# Altium footprint library WE-OLSTM.PcbLib: 28 footprints (part 2 of 2)
Each footprint in its own frame and in the unit in brackets; x right, y up, seen from the top. Pads: shape width x height; smd on the part's side, far side on the other; paste and mask are expansions set on the pad; w line width, h text height; cw(c..) or ccw(c..) is an arc to the next point about the centre after c.
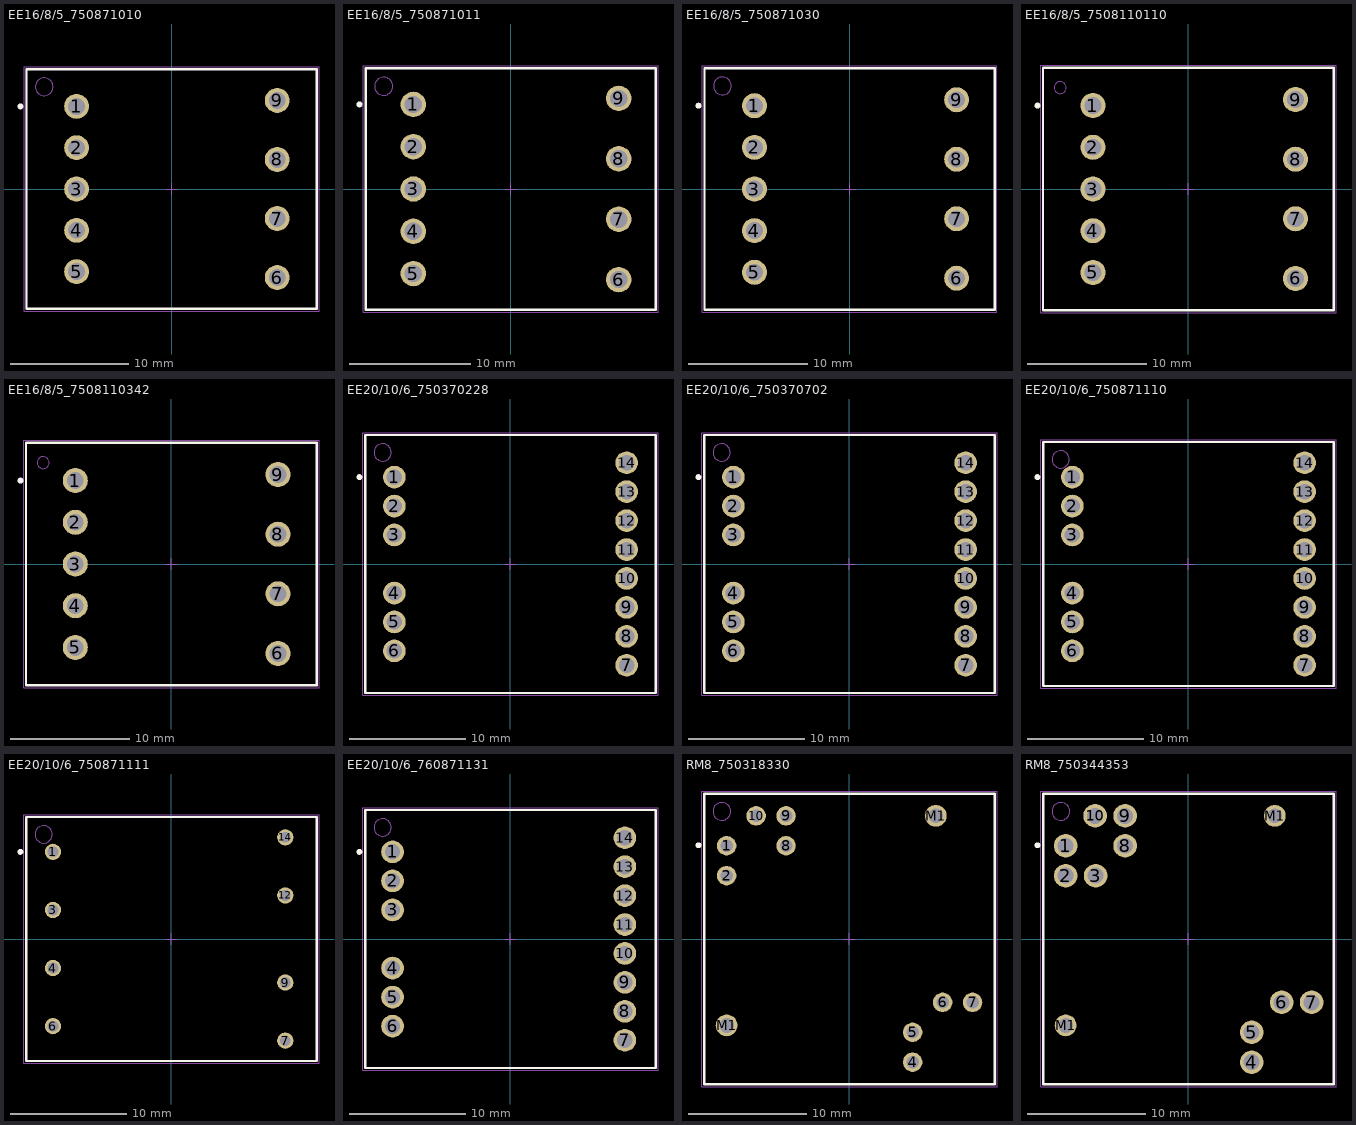
[diagram p1: the footprints below, top view; thin cyan lines are the x and y axes]

## EE16/8/5_750871010 [mm] "Offline Flyback Transformer, THT, body 24.58 x 20.32 mm"
height 16
pads (9):
  round 2.1 hole 1.42: 1(-8.05,7) 2(-8.05,3.5) 3(-8.05,0) 4(-8.05,-3.5) 5(-8.05,-7) 6(8.95,-7.5) 7(8.95,-2.5) 8(8.95,2.5) 9(8.95,7.5)
Top Overlay:
  circle w0.25: c-12.8,7 r0.125
  lines w0.2: -12.29,-10.16 12.29,-10.16 12.29,10.16 -12.29,10.16 -12.29,-10.16
Top Component Outline:
  circle w0.1: c-10.79,8.66 r0.75
  lines w0.1: -12.29,-10.16 -12.29,10.16 12.29,10.16 12.29,-10.16 -12.29,-10.16
Top Courtyard:
  lines w0.05: -12.49,-10.36 -12.49,10.36 12.49,10.36 12.49,-10.36 -12.49,-10.36
Top Component Center:
  lines w0.05: -0.5,0 0.5,0 ; 0,-0.5 0,0.5
Top Designator (Mech19):
  text ".Designator" at -7.498,-0.5 h1.5
3D body "070-5280 (rev1).STEP": height 14.95, standoff -3.45, extent -11.905,-9.9 11.905,9.9

## EE16/8/5_750871011 [mm] "Offline Flyback Transformer, THT, body 24.00 x 20.00 mm"
height 16
pads (9):
  round 2.1 hole 1.42: 1(-8.05,7) 2(-8.05,3.5) 3(-8.05,0) 4(-8.05,-3.5) 5(-8.05,-7) 6(8.95,-7.5) 7(8.95,-2.5) 8(8.95,2.5) 9(8.95,7.5)
Top Overlay:
  circle w0.25: c-12.5,7 r0.125
  lines w0.2: -12,-10 12,-10 12,10 -12,10 -12,-10
Top Component Outline:
  circle w0.1: c-10.5,8.5 r0.75
  lines w0.1: -12,-10 12,-10 12,10 -12,10 -12,-10
Top Courtyard:
  lines w0.05: -12.2,-10.2 12.2,-10.2 12.2,10.2 -12.2,10.2 -12.2,-10.2
Top Component Center:
  lines w0.05: -0.5,0 0.5,0 ; 0,-0.5 0,0.5
Top Designator (Mech19):
  text ".Designator" at -7.498,-0.5 h1.5
3D body "070-5280 (rev1).STEP": height 14.95, standoff -3.45, extent -11.905,-9.9 11.905,9.9

## EE16/8/5_750871030 [mm] "Offline Flyback Transformer, THT, body 24.38 x 20.32 mm"
height 16
pads (9):
  round 2.1 hole 1.42: 1(-8,7) 2(-8,3.5) 3(-8,0) 4(-8,-3.5) 5(-8,-7) 6(9,-7.5) 7(9,-2.5) 8(9,2.5) 9(9,7.5)
Top Overlay:
  circle w0.25: c-12.7,7 r0.125
  lines w0.2: -12.19,-10.16 12.19,-10.16 12.19,10.16 -12.19,10.16 -12.19,-10.16
Top Component Outline:
  circle w0.1: c-10.69,8.66 r0.75
  lines w0.1: -12.19,-10.16 12.19,-10.16 12.19,10.16 -12.19,10.16 -12.19,-10.16
Top Courtyard:
  lines w0.05: -12.39,-10.36 12.39,-10.36 12.39,10.36 -12.39,10.36 -12.39,-10.36
Top Component Center:
  lines w0.05: -0.5,0 0.5,0 ; 0,-0.5 0,0.5
Top Designator (Mech19):
  text ".Designator" at -7.498,-0.5 h1.5
3D body "070-5280 (rev1).STEP": height 14.95, standoff -3.45, extent -11.905,-9.9 11.905,9.9

## EE16/8/5_7508110110 [mm] "Offline Flyback Transformer, THT, body 24.38 x 20.32 mm"
height 16
pads (9):
  round 2.1 hole 1.4: 1(-8,7) 2(-8,3.5) 3(-8,0) 4(-8,-3.5) 5(-8,-7) 6(9,-7.5) 7(9,-2.5) 8(9,2.5) 9(9,7.5)
Top Overlay:
  circle w0.25: c-12.65,7 r0.125
  lines w0.2: -12.19,-10.16 12.19,-10.16 12.19,10.16 -12.19,10.16 -12.19,-10.16
Top Component Outline:
  circle w0.1: c-10.75,8.5 r0.5
  lines w0.1: -12.19,-10.16 12.19,-10.16 12.19,10.16 -12.19,10.16 -12.19,-10.16
Top Courtyard:
  lines w0.05: -12.39,-10.36 12.39,-10.36 12.39,10.36 -12.39,10.36 -12.39,-10.36
Top Component Center:
  lines w0.05: -0.5,0 0.5,0 ; 0,-0.5 0,0.5
Top Designator (Mech19):
  text ".Designator" at -7.498,-0.5 h1.5
3D body "070-5280 (rev1).STEP": height 14.95, standoff -3.45, extent -11.905,-9.9 11.905,9.9

## EE16/8/5_7508110342 [mm] "Offline Flyback Transformer, THT, body 24.38 x 20.32 mm"
height 16
pads (9):
  round 2.1 hole 1.4: 1(-8.05,7) 2(-8.05,3.5) 3(-8.05,0) 4(-8.05,-3.5) 5(-8.05,-7) 6(8.95,-7.5) 7(8.95,-2.5) 8(8.95,2.5) 9(8.95,7.5)
Top Overlay:
  circle w0.25: c-12.65,7 r0.125
  lines w0.2: -12.19,-10.16 -12.19,10.16 12.19,10.16 12.19,-10.16 -12.19,-10.16
Top Component Outline:
  circle w0.1: c-10.75,8.5 r0.5
  lines w0.1: -12.19,-10.16 12.19,-10.16 12.19,10.16 -12.19,10.16 -12.19,-10.16
Top Courtyard:
  lines w0.05: -12.39,-10.36 -12.39,10.36 12.39,10.36 12.39,-10.36 -12.39,-10.36
Top Component Center:
  lines w0.05: -0.5,0 0.5,0 ; 0,-0.5 0,0.5
Top Designator (Mech19):
  text ".Designator" at -7.498,-0.5 h1.5
3D body "070-5280 (rev1).STEP": height 14.95, standoff -3.45, extent -11.905,-9.9 11.905,9.9

## EE20/10/6_750370228 [mm] "Offline Flyback Transformer, THT, body 25.00 x 22.20 mm"
height 16
pads (14):
  round 1.95 hole 1.32: 1(-10,7.48) 2(-10,4.99) 3(-10,2.5) 4(-10,-2.5) 5(-10,-4.99) 6(-10,-7.48) 7(10,-8.715) 8(10,-6.225) 9(10,-3.735) 10(10,-1.245) 11(10,1.245) 12(10,3.735) 13(10,6.225) 14(10,8.715)
Top Overlay:
  circle w0.25: c-13,7.48 r0.125
  lines w0.2: -12.5,-11.1 -12.5,11.1 12.5,11.1 12.5,-11.1 -12.5,-11.1
Top Component Outline:
  circle w0.1: c-11,9.6 r0.75
  lines w0.1: -12.5,-11.1 -12.5,11.1 12.5,11.1 12.5,-11.1 -12.5,-11.1
Top Courtyard:
  lines w0.05: -12.7,-11.3 -12.7,11.3 12.7,11.3 12.7,-11.3 -12.7,-11.3
Top Component Center:
  lines w0.05: -0.5,0 0.5,0 ; 0,-0.5 0,0.5
Top Designator (Mech19):
  text ".Designator" at -7.498,-0.5 h1.5
3D body "070-5643 (rev1).STEP": height 15.4, standoff -3.51, extent -12.45,-10.56 12.45,10.56

## EE20/10/6_750370702 [mm] "Offline Flyback Transformer, THT, body 25.00 x 22.20 mm"
height 16
pads (14):
  round 1.95 hole 1.32: 1(-10,7.48) 2(-10,4.99) 3(-10,2.5) 4(-10,-2.5) 5(-10,-4.99) 6(-10,-7.48) 7(10,-8.715) 8(10,-6.225) 9(10,-3.735) 10(10,-1.245) 11(10,1.245) 12(10,3.735) 13(10,6.225) 14(10,8.715)
Top Overlay:
  circle w0.25: c-13,7.48 r0.125
  lines w0.2: -12.5,-11.1 -12.5,11.1 12.5,11.1 12.5,-11.1 -12.5,-11.1
Top Component Outline:
  circle w0.1: c-11,9.6 r0.75
  lines w0.1: -12.5,-11.1 -12.5,11.1 12.5,11.1 12.5,-11.1 -12.5,-11.1
Top Courtyard:
  lines w0.05: -12.7,-11.3 -12.7,11.3 12.7,11.3 12.7,-11.3 -12.7,-11.3
Top Component Center:
  lines w0.05: -0.5,0 0.5,0 ; 0,-0.5 0,0.5
Top Designator (Mech19):
  text ".Designator" at -7.498,-0.5 h1.5
3D body "070-5643 (rev1).STEP": height 15.45, standoff -3.46, extent -12.399,-10.472 12.501,10.648

## EE20/10/6_750871110 [mm] "Offline Flyback Transformer, THT, body 25.00 x 21.00 mm"
height 16
pads (14):
  round 1.95 hole 1.32: 1(-10,7.48) 2(-10,4.99) 3(-10,2.5) 4(-10,-2.5) 5(-10,-4.99) 6(-10,-7.48) 7(10,-8.715) 8(10,-6.225) 9(10,-3.735) 10(10,-1.245) 11(10,1.245) 12(10,3.735) 13(10,6.225) 14(10,8.715)
Top Overlay:
  circle w0.25: c-13,7.48 r0.125
  lines w0.2: -12.5,-10.5 -12.5,10.5 12.5,10.5 12.5,-10.5 -12.5,-10.5
Top Component Outline:
  circle w0.1: c-11,9 r0.75
  lines w0.1: -12.5,-10.5 -12.5,10.5 12.5,10.5 12.5,-10.5 -12.5,-10.5
Top Courtyard:
  lines w0.05: -12.7,-10.7 -12.7,10.7 12.7,10.7 12.7,-10.7 -12.7,-10.7
Top Component Center:
  lines w0.05: -0.5,0 0.5,0 ; 0,-0.5 0,0.5
Top Designator (Mech19):
  text ".Designator" at -7.498,-0.5 h1.5
3D body "070-5443-1170 (rev1).STEP": height 16.05, standoff -2.86, extent -12.4,-10.56 12.4,10.56

## EE20/10/6_750871111 [mm] "Offline Flyback Transformer, THT, body 25.00 x 21.00 mm"
height 16
pads (8):
  round 1.4 hole 0.92: 1(-10.2,7.5) 3(-10.2,2.5) 4(-10.2,-2.5) 6(-10.2,-7.5) 7(9.8,-8.75) 9(9.8,-3.75) 12(9.8,3.75) 14(9.8,8.75)
Top Overlay:
  circle w0.25: c-13,7.5 r0.125
  lines w0.2: -12.5,-10.5 -12.5,10.5 12.5,10.5 12.5,-10.5 -12.5,-10.5
Top Component Outline:
  circle w0.1: c-11,9 r0.75
  lines w0.1: -12.5,-10.5 -12.5,10.5 12.5,10.5 12.5,-10.5 -12.5,-10.5
Top Courtyard:
  lines w0.05: -12.7,-10.7 -12.7,10.7 12.7,10.7 12.7,-10.7 -12.7,-10.7
Top Component Center:
  lines w0.05: -0.5,0 0.5,0 ; 0,-0.5 0,0.5
Top Designator (Mech19):
  text ".Designator" at -7.498,-0.5 h1.5
3D body "070-5406_MP2-5-8-10-11-13 (rev1).STEP": height 15.61, standoff -3.3, extent -12.395,-10.56 12.395,10.56

## EE20/10/6_760871131 [mm] "Offline Flyback Transformer, THT, body 25.00 x 22.20 mm"
height 16
pads (14):
  round 1.95 hole 1.32: 1(-10.15,7.5) 2(-10.15,5) 3(-10.15,2.5) 4(-10.15,-2.5) 5(-10.15,-5) 6(-10.15,-7.5) 7(9.85,-8.715) 8(9.85,-6.225) 9(9.85,-3.735) 10(9.85,-1.245) 11(9.85,1.245) 12(9.85,3.735) 13(9.85,6.225) 14(9.85,8.715)
Top Overlay:
  circle w0.25: c-13,7.5 r0.125
  lines w0.2: -12.5,-11.1 12.5,-11.1 12.5,11.1 -12.5,11.1 -12.5,-11.1
Top Component Outline:
  circle w0.1: c-11,9.6 r0.75
  lines w0.1: -12.5,-11.1 -12.5,11.1 12.5,11.1 12.5,-11.1 -12.5,-11.1
Top Courtyard:
  lines w0.05: -12.7,-11.3 -12.7,11.3 12.7,11.3 12.7,-11.3 -12.7,-11.3
Top Component Center:
  lines w0.05: -0.5,0 0.5,0 ; 0,-0.5 0,0.5
Top Designator (Mech19):
  text ".Designator" at -7.498,-0.5 h1.5
3D body "070-5443-1170 (rev1).STEP": height 15.55, standoff -3.36, extent -12.4,-10.56 12.4,10.56

## RM8_750318330 [mm] "Offline Flyback Transformer, THT, body 24.64 x 24.64 mm"
height 17.32
pads (11):
  round 1.65 hole 1.07: 1(-10.41,7.91) 2(-10.41,5.37) 4(5.37,-10.45) 5(5.37,-7.91) 6(7.91,-5.37) 7(10.45,-5.37) 8(-5.37,7.91) 9(-5.37,10.45) 10(-7.91,10.45)
  round 1.85 hole 1.25: M1(-10.41,-7.33) M1(7.33,10.45)
Top Overlay:
  circle w0.25: c-12.8,7.95 r0.125
  lines w0.2: -12.32,-12.32 -12.32,12.32 12.32,12.32 12.32,-12.32 -12.32,-12.32
Top Component Outline:
  circle w0.1: c-10.82,10.82 r0.75
  lines w0.1: -12.32,-12.32 -12.32,12.32 12.32,12.32 12.32,-12.32 -12.32,-12.32
Top Courtyard:
  lines w0.05: -12.52,-12.52 -12.52,12.52 12.52,12.52 12.52,-12.52 -12.52,-12.52
Top Component Center:
  lines w0.05: -0.5,0 0.5,0 ; 0,-0.5 0,0.5
Top Designator (Mech19):
  text ".Designator" at -7.498,-0.5 h1.5
3D body "070-6836 (rev1).STEP": height 16.84, standoff -3.41, extent -12.323,-12.247 12.223,12.3

## RM8_750344353 [mm] "Offline Flyback Transformer, THT, body 24.64 x 24.64 mm"
height 17.32
pads (12):
  round 2 hole 1.35: 1(-10.41,7.91) 2(-10.41,5.37) 3(-7.87,5.37) 4(5.37,-10.45) 5(5.37,-7.91) 6(7.91,-5.37) 7(10.45,-5.37) 8(-5.37,7.91) 9(-5.37,10.45) 10(-7.91,10.45)
  round 1.85 hole 1.25: M1(-10.41,-7.33) M1(7.33,10.45)
Top Overlay:
  circle w0.25: c-12.8,7.95 r0.125
  lines w0.2: -12.32,-12.32 12.32,-12.32 12.32,12.32 -12.32,12.32 -12.32,-12.32
Top Component Outline:
  circle w0.1: c-10.82,10.82 r0.75
  lines w0.1: -12.32,-12.32 12.32,-12.32 12.32,12.32 -12.32,12.32 -12.32,-12.32
Top Courtyard:
  lines w0.05: -12.52,-12.52 12.52,-12.52 12.52,12.52 -12.52,12.52 -12.52,-12.52
Top Component Center:
  lines w0.05: -0.5,0 0.5,0 ; 0,-0.5 0,0.5
Top Designator (Mech19):
  text ".Designator" at -7.498,-0.5 h1.5
3D body "070-6835 (rev1).STEP": height 16.84, standoff -3.41, extent -12.391,-12.202 12.156,12.345